# Altium schematic symbol library TN2540-600G-TR.SchLib: 1 symbol
Pins are listed as number, name and electrical type; pins without a type are passive.

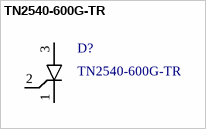
[diagram p0: symbol TN2540-600G-TR]

## TN2540-600G-TR
designator D?
Thyristor SCR 600V 314A 3-Pin_2+Tab_ D2PAK T/R; MF: STMicroelectronics; SnapEDA_Link: https://www.snapeda.com/parts/TN2540-600G-TR/STMicroelectronics/view-part/?ref=snap; MP: TN2540-600G-TR; Availability: Good; Price: 1.49 USD; Package: TO-263-3 STMicroelectronics; Value: *
footprint DPAK508P1542X460-3N
pins: 1 C, 2 G, 3 A